# EAGLE library part RA-30 (library cdp)
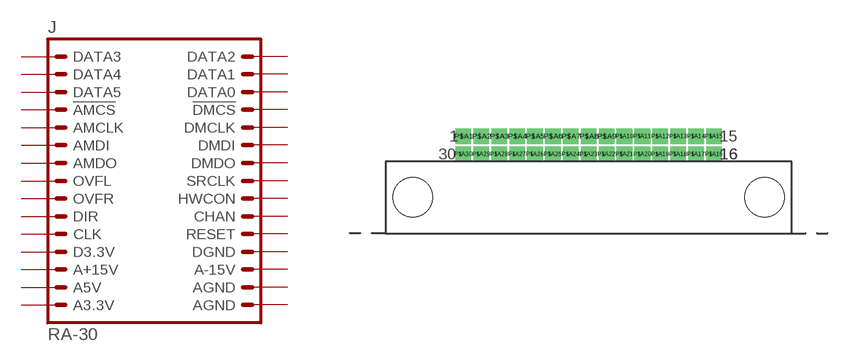
[diagram p11: symbol with the pads of FCI-RA-30; footprint FCI-RA-30]

Designator prefix J

## RA-30  [FCI-RA-30]
P$A1  AGND  pwr
P$A2  AGND  pwr
P$A3  A-15V  pwr
P$A4  DGND  pwr
P$A5  RESET  out
P$A6  CHAN  in
P$A7  HWCON  out
P$A8  SRCLK  out
P$A9  DMDO  pas
P$A10  DMDI  pas
P$A11  DMCLK  pas
P$A12  !DMCS  pas
P$A13  DATA0
P$A14  DATA1
P$A15  DATA2
P$A16  DATA3
P$A17  DATA4
P$A18  DATA5
P$A19  !AMCS  pas
P$A20  AMCLK  pas
P$A21  AMDI  pas
P$A22  AMDO  pas
P$A23  OVFL  pas
P$A24  OVFR  pas
P$A25  DIR  in
P$A26  CLK  out
P$A27  D3.3V  pwr
P$A28  A+15V  pwr
P$A29  A5V  pwr
P$A30  A3.3V  pwr

## Footprint FCI-RA-30 (pad centres in mm)
drill 0.6 pad 0.813 square: P$A1 -8.89,0.635; P$A2 -7.62,0.635; P$A3 -6.35,0.635; P$A4 -5.08,0.635; P$A5 -3.81,0.635; P$A6 -2.54,0.635; P$A7 -1.27,0.635; P$A8 0,0.635; P$A9 1.27,0.635; P$A10 2.54,0.635; P$A11 3.81,0.635; P$A12 5.08,0.635; P$A13 6.35,0.635; P$A14 7.62,0.635; P$A15 8.89,0.635; P$A16 8.89,-0.635; P$A17 7.62,-0.635; P$A18 6.35,-0.635; P$A19 5.08,-0.635; P$A20 3.81,-0.635; P$A21 2.54,-0.635; P$A22 1.27,-0.635; P$A23 0,-0.635; P$A24 -1.27,-0.635; P$A25 -2.54,-0.635; P$A26 -3.81,-0.635; P$A27 -5.08,-0.635; P$A28 -6.35,-0.635; P$A29 -7.62,-0.635; P$A30 -8.89,-0.635
hole 2.8 at -12.497,-3.708
hole 2.8 at 12.497,-3.708